# Altium footprint library Package_TO_SOT_THT.PcbLib: 236 footprints (part 1 of 15)
Each footprint in its own frame and in the unit in brackets; x right, y up, seen from the top. Pads: shape width x height; smd on the part's side, far side on the other; paste and mask are expansions set on the pad; w line width, h text height; cw(c..) or ccw(c..) is an arc to the next point about the centre after c.
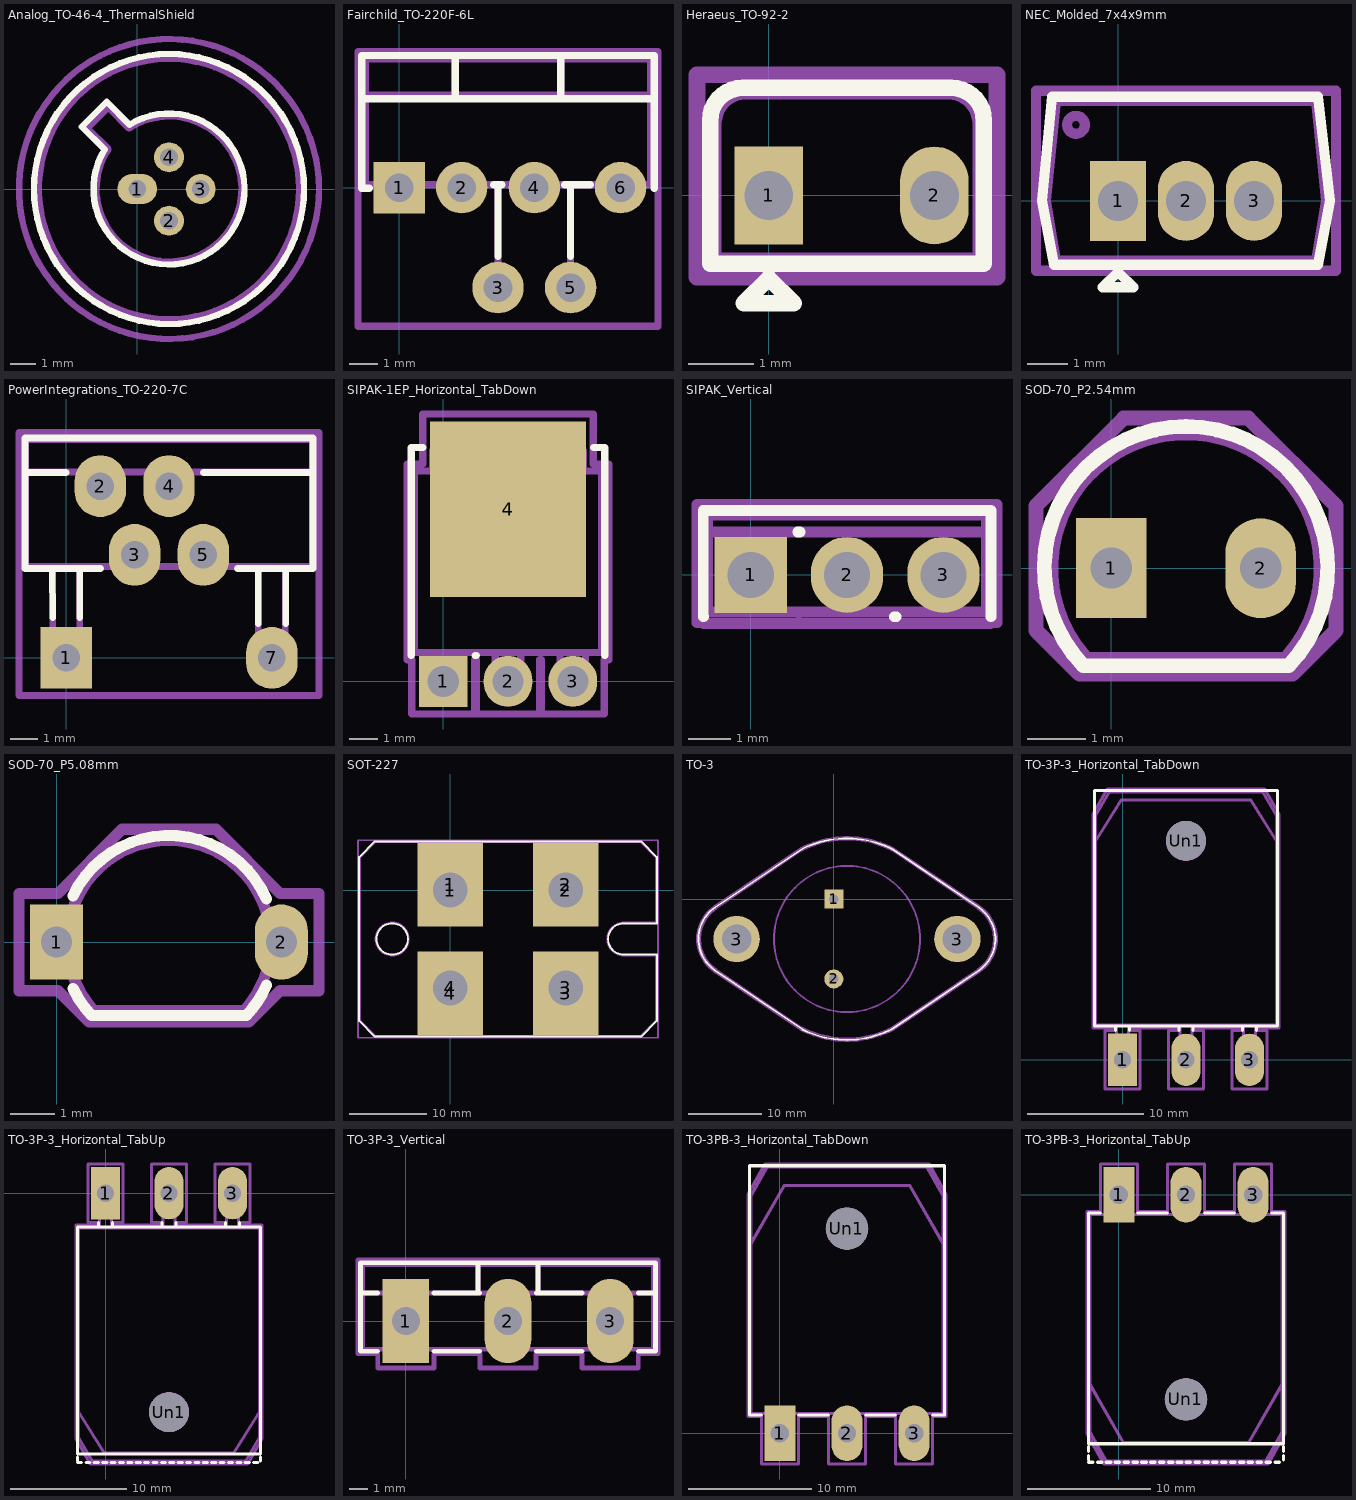
[diagram p0: the footprints below, top view; thin cyan lines are the x and y axes]

## Analog_TO-46-4_ThermalShield [mm]
pads (4):
  rrect100% 1.6x1.2 hole 0.7: 1(0,0)
  round 1.2 hole 0.7: 2(1.27,-1.27) 3(2.54,0) 4(1.27,1.27)
F.SilkS:
  circle w0.254: c1.27,0 r5.4
  lines w0.254: -2.214,2.494 -1.224,3.484 -0.312,2.572 cw(c1.27,0) -1.302,1.583 -2.214,2.494
F.Fab:
  circle w0.254: c1.27,0 r5.207
  lines w0.254: -1.15,1.598 ccw(c1.27,0) -0.329,2.419 -1.156,3.247 -1.977,2.426 -1.149,1.599
  text "'.Designator'" at -2.797,-0.84 h1
  text "REF**" at 0.099,5.827 h1
F.CrtYd:
  circle w0.254: c1.27,0 r6
3D body "Analog_TO-46-4_ThermalShield.step": height 6.18, standoff -4.3, extent -3.937,-5.204 6.477,5.204

## Fairchild_TO-220F-6L [mm]
pads (6):
  rect 1.8x1.8 hole 1: 1(0,0)
  rrect100% 1.8x1.8 hole 1: 2(2.19,0) 3(3.46,-3.5) 4(4.73,0) 5(6,-3.5) 6(7.75,0)
F.SilkS:
  lines w0.254: -1.31,3.111 8.93,3.111 ; -1.05,-0.021 -1.31,-0.021 -1.31,4.62 8.93,4.62 8.93,-0.021 ; 1.96,3.111 1.96,4.62 ; 3.3,0.1 3.6,0.1 ; 3.46,-2.4 3.46,0.1 ; 5.66,3.111 5.66,4.62 ; 5.8,0.1 6.7,0.1 ; 6,-2.4 6,0.1
F.Fab:
  lines w0.254: -1.19,3.23 8.81,3.23 ; 0,0 0,0.1 ; 1.96,3.23 1.96,4.5 ; 3.46,-3.5 3.46,0.1 ; 5.66,3.23 5.66,4.5 ; 6,-3.5 6,0.1 ; -1.19,0.1 8.81,0.1 8.81,4.5 -1.19,4.5 -1.19,0.1
  text "'.Designator'" at -0.237,4.78 h1
F.CrtYd:
  lines w0.254: -1.44,-4.85 9.06,-4.85 9.06,4.75 -1.44,4.75 -1.44,-4.85

## Heraeus_TO-92-2 [mm]
pads (2):
  rect 1.05x1.5 hole 0.75: 1(0,0)
  rrect100% 1.05x1.5 hole 0.75: 2(2.54,0)
F.SilkS:
  lines w0.254: -0.9,-1.05 -0.9,1.15 cw(c-0.4,1.15) -0.4,1.65 2.8,1.65 cw(c2.8,1.15) 3.3,1.15 3.3,-1.05 -0.9,-1.05 ; -0.381,-1.651 0.381,-1.651 0,-1.27 -0.381,-1.651
F.Fab:
  lines w0.254: 2.7,1.6 -0.35,1.6 ccw(c-0.35,1.1) -0.85,1.1 -0.85,-1 3.25,-1 3.25,1.1 ccw(c2.75,1.1) 2.75,1.6
  text "'.Designator'" at -2.777,-0.84 h1
F.CrtYd:
  lines w0.254: -1.1,-1.25 -1.1,1.85 3.5,1.85 3.5,-1.25 -1.1,-1.25
3D body "Heraeus_TO-92-2.step": height 4.7, standoff -4.5, extent -0.78,-1 3.32,1.6

## NEC_Molded_7x4x9mm [mm]
pads (3):
  rect 1.4x2 hole 1: 1(0,0)
  rrect100% 1.4x2 hole 1: 2(1.7,0) 3(3.4,0)
F.SilkS:
  lines w0.254: -1.9,0 -1.6,-1.6 5,-1.6 5.3,0 5,2.6 -1.65,2.6 -1.9,0 ; -0.381,-2.159 0.381,-2.159 0,-1.778 -0.381,-2.159
F.Fab:
  circle w0.254: c-1.05,1.9 r0.224
  lines w0.254: -1.8,0 -1.55,2.5 4.95,2.5 5.2,0 4.95,-1.5 -1.55,-1.5 -1.8,0
  text "'.Designator'" at -2.347,0.61 h1
F.CrtYd:
  lines w0.254: -2.05,-1.75 -2.05,2.75 5.45,2.75 5.45,-1.75 -2.05,-1.75
3D body "NEC_Molded_7x4x9mm.step": height 10, standoff -6, extent -1.8,-1.5 5.2,2.5

## PowerIntegrations_TO-220-7C [mil]
pads (6):
  rect 75x90 hole 40: 1(0,0)
  rrect100% 75x90 hole 40: 2(50,250) 3(100,150) 4(150,250) 5(200,150) 7(300,0)
F.SilkS:
  lines w10: -60,270 0,270 ; -20,130 -19.29,58.27 ; 20,130 20.08,58.27 ; 50,130 -60,130 -60,320 360,320 360,130 250,130 ; 200,270 360,270 ; 280,50 280,130 ; 320,50 320,130
F.Fab:
  lines w10: -58.66,270.87 358.66,270.87 ; -19.29,133.07 -19.29,-0.79 20.08,-0.79 20.08,133.07 ; 279.92,133.07 279.92,-0.79 319.29,-0.79 319.29,133.07 ; -58.66,133.07 358.66,133.07 358.66,318.11 -58.66,318.11 -58.66,133.07
  text "'.Designator'" at -9.32,166.92 h39.37
F.CrtYd:
  lines w10: -68.5,-54.72 368.5,-54.72 368.5,327.95 -68.5,327.95 -68.5,-54.72

## SIPAK-1EP_Horizontal_TabDown [mm]
pads (4):
  rect 1.714x1.8 hole 1.1: 1(0,0)
  rrect100% 1.714x1.8 hole 1.1: 2(2.286,0) 3(4.572,0)
  rect 5.5x6.2 smd: 4(2.286,6.073)
F.SilkS:
  lines w0.254: -1.124,0.91 -1.124,8.25 -0.724,8.25 ; 1.117,0.91 1.169,0.91 ; 5.296,8.25 5.696,8.25 5.696,0.91 5.689,0.91
F.Fab:
  lines w0.254: -1.014,1.02 -1.014,7.42 5.586,7.42 5.586,1.02 -1.014,1.02 ; -0.45,0 -0.45,1.02 0.45,1.02 0.45,0 -0.45,0 ; -0.379,7.42 -0.379,8.14 4.951,8.14 4.951,7.42 -0.379,7.42 ; 1.836,0 1.836,1.02 2.736,1.02 2.736,0 1.836,0 ; 4.122,0 4.122,1.02 5.022,1.02 5.022,0 4.122,0
  text "'.Designator'" at -1.767,3.3 h1
F.CrtYd:
  lines w0.254: -1.27,0.76 -1.27,7.67 -0.72,7.67 -0.72,9.43 5.29,9.43 5.29,7.67 5.84,7.67 5.84,0.76 5.68,0.76 5.68,-1.15 3.46,-1.15 3.46,0.76 3.4,0.76 3.4,-1.15 1.17,-1.15 1.17,0.76 1.11,0.76 1.11,-1.15 -1.11,-1.15 -1.11,0.76 -1.27,0.76

## SIPAK_Vertical [mm]
pads (3):
  rect 1.714x1.8 hole 1.1: 1(0,0)
  rrect100% 1.714x1.8 hole 1.1: 2(2.286,0) 3(4.572,0)
F.SilkS:
  lines w0.254: -1.117,-0.99 -1.124,-0.99 -1.124,1.53 5.696,1.53 5.696,-0.99 ; 1.117,1.02 1.169,1.02 ; 3.403,-0.99 3.455,-0.99 ; 5.689,1.02 5.696,1.02
F.Fab:
  lines w0.254: -1.014,1.02 5.586,1.02 ; -1.014,-0.88 5.586,-0.88 5.586,1.42 -1.014,1.42 -1.014,-0.88
  text "'.Designator'" at -1.757,-0.57 h1
F.CrtYd:
  lines w0.254: -1.27,-1.13 -1.11,-1.13 -1.11,-1.15 1.11,-1.15 1.11,-1.13 1.17,-1.13 1.17,-1.15 3.4,-1.15 3.4,-1.13 3.46,-1.13 3.46,-1.15 5.68,-1.15 5.68,-1.13 5.84,-1.13 5.84,1.67 -1.27,1.67 -1.27,-1.13

## SOD-70_P2.54mm [mm]
pads (2):
  rect 1.2x1.7 hole 0.7: 1(0,0)
  rrect100% 1.2x1.7 hole 0.7: 2(2.54,0)
F.SilkS:
  lines w0.254: -0.477,-1.66 cw(c1.27,0) 3.017,-1.66 -0.477,-1.66
F.Fab:
  lines w0.254: -0.429,-1.55 cw(c1.27,0) 2.969,-1.55 -0.429,-1.55
  text "'.Designator'" at -2.547,2.66 h1
F.CrtYd:
  lines w0.254: -1.28,-1.06 -1.28,1.06 0.21,2.55 2.33,2.55 3.82,1.06 3.82,-1.06 3.08,-1.8 -0.54,-1.8 -1.28,-1.06
3D body "SOD-70_P2.54mm.step": height 5.6, standoff -4.5, extent -1.03,-1.55 3.57,2.3

## SOD-70_P5.08mm [mm]
pads (2):
  rect 1.2x1.7 hole 0.7: 1(0,0)
  rrect100% 1.2x1.7 hole 0.7: 2(5.08,0)
F.SilkS:
  lines w0.254: 0.371,-1.05 ccw(c2.54,0) 0.793,-1.66 4.287,-1.66 ccw(c2.54,0) 4.744,-0.975 ; 0.371,1.05 cw(c2.54,0) 4.744,0.975
F.Fab:
  lines w0.254: 0.841,-1.55 cw(c2.54,0) 4.239,-1.55 0.841,-1.55
  text "'.Designator'" at -1.547,2.66 h1
F.CrtYd:
  lines w0.254: -0.85,-1.1 -0.85,1.1 0.03,1.1 1.48,2.55 3.6,2.55 5.05,1.1 5.93,1.1 5.93,-1.1 5.05,-1.1 4.35,-1.8 0.73,-1.8 0.03,-1.1 -0.85,-1.1
3D body "SOD-70_P5.08mm.step": height 7.6, standoff -2.46, extent -0.22,-1.55 5.34,2.3

## SOT-227 [mm]
pads (8):
  round 8 hole 4.5: 1(0,0) 2(15.05,0) 3(15.05,-12.75) 4(0,-12.75)
  rect 8.55x10.88 smd: 1(0,0.665) 2(15.05,0.665) 3(15.05,-13.415) 4(0,-13.415)
F.SilkS:
  circle w0.254: c-7.55,-6.375 r2.04
  lines w0.254: -11.86,-17.035 -9.8,-19.085 24.85,-19.085 26.91,-17.035 26.91,-8.415 22.6,-8.415 cw(c22.6,-6.375) 22.6,-4.335 26.91,-4.335 26.91,4.285 24.85,6.335 -9.8,6.335 -11.86,4.285 -11.86,-17.035
F.Fab:
  circle w0.254: c-7.55,-6.375 r2.15
  lines w0.254: -11.75,-16.975 -9.75,-18.975 24.8,-18.975 26.8,-16.975 26.8,-8.525 22.6,-8.525 cw(c22.6,-6.375) 22.6,-4.225 26.8,-4.225 26.8,4.225 24.8,6.225 -9.75,6.225 -11.75,4.225 -11.75,-16.975
  text "'.Designator'" at 3.478,-6.215 h1
F.CrtYd:
  lines w0.254: -12,-19.23 27.05,-19.23 27.05,6.48 -12,6.48 -12,-19.23

## TO-3 [mm]
pads (4):
  rect 2.6x2.6 hole 1.3: 1(0,0)
  round 2.6 hole 1.3: 2(0,-10.92)
  round 6.35 hole 4: 3(-13.3,-5.45) 3(16.9,-5.45)
F.SilkS:
  lines w0.254: -4.325,-17.825 ccw(c1.765,-5.561) 8.1,-17.7 19.9,-9.7 ccw(c16.9,-5.45) 19.9,-1.2 8.1,6.8 ccw(c1.801,-5.452) -4.3,6.9 -16.2,-1.1 ccw(c-13.311,-5.434) -16.3,-9.7 -4.3,-17.8
F.Fab:
  circle w0.254: c-13.3,-5.45 r2
  circle w0.254: c1.8,-5.45 r10
  circle w0.254: c16.9,-5.45 r2
  lines w0.254: -16.11,-9.58 cw(c-13.3,-5.45) -16.11,-1.32 -4.38,6.67 cw(c1.8,-5.45) 7.98,6.67 19.71,-1.32 cw(c16.9,-5.45) 19.71,-9.58 7.98,-17.56 cw(c1.79,-5.403) -4.38,-17.57 -16.11,-9.58
  text "'.Designator'" at -4.047,-5.09 h1
F.CrtYd:
  lines w0.254: -16.4,-9.9 cw(c-13.3,-5.45) -16.4,-1 -4.5,7 cw(c1.8,-5.45) 8.1,7 20,-1 cw(c16.9,-5.45) 20,-9.9 8.1,-17.9 cw(c1.8,-5.45) -4.5,-17.9 -16.4,-9.9
3D body "TO-3.step": height 9, standoff -10, extent -18.3,-19.05 21.9,8.15

## TO-3P-3_Horizontal_TabDown [mm]
pads (4):
  rect 2.5x4.5 hole 1.5: 1(0,0)
  rrect100% 2.5x4.5 hole 1.5: 2(5.45,0) 3(10.9,0)
  round 3.4 hole 3.4: Un1(5.45,18.8)
F.SilkS:
  lines w0.254: -0.61,2.51 -0.61,2.89 ; 0.61,2.51 0.61,2.89 ; 4.84,2.51 4.84,2.89 ; 6.06,2.51 6.06,2.89 ; 10.29,2.51 10.29,2.89 ; 11.51,2.51 11.51,2.89 ; -2.41,2.89 13.31,2.89 13.31,23.11 -2.41,23.11 -2.41,2.89
F.Fab:
  circle w0.254: c5.45,18.8 r1.6
  lines w0.254: -2.3,18.8 -2.3,3 13.2,3 13.2,18.8 ; -2.3,18.8 -0.11,22.3 11.01,22.3 13.2,18.8 ; -2.3,18.8 -2.3,21 -1.15,23 12.05,23 13.2,21 13.2,18.8 ; -0.5,0 0.5,0 0.5,3 -0.5,3 -0.5,0 ; 4.95,0 5.95,0 5.95,3 4.95,3 4.95,0 ; 10.4,0 11.4,0 11.4,3 10.4,3 10.4,0
  text "'.Designator'" at 1.403,9.54 h1
F.CrtYd:
  lines w0.254: -2.55,2.75 -0.75,2.75 -0.75,2.5 -1.5,2.5 -1.5,-2.5 1.5,-2.5 1.5,2.5 0.75,2.5 0.75,2.75 4.7,2.75 4.7,2.5 3.95,2.5 3.95,-2.5 6.95,-2.5 6.95,2.5 6.2,2.5 6.2,2.75 10.15,2.75 10.15,2.5 9.4,2.5 9.4,-2.5 12.4,-2.5 12.4,2.5 11.65,2.5 11.65,2.75 13.45,2.75 13.45,21.07 12.2,23.25 -1.3,23.25 -2.55,21.07 -2.55,2.75

## TO-3P-3_Horizontal_TabUp [mm]
pads (4):
  rect 2.5x4.5 hole 1.5: 1(0,0)
  rrect100% 2.5x4.5 hole 1.5: 2(5.45,0) 3(10.9,0)
  round 3.4 hole 3.4: Un1(5.45,-18.8)
F.SilkS:
  lines w0.254: -2.41,-23.11 -2.05,-23.11 ; -2.41,-23.01 -2.41,-22.65 ; -1.69,-23.11 -1.33,-23.11 ; -0.97,-23.11 -0.61,-23.11 ; -0.61,-2.89 -0.61,-2.51 ; -0.25,-23.11 0.11,-23.11 ; 0.47,-23.11 0.83,-23.11 ; 0.61,-2.89 0.61,-2.51 ; 1.19,-23.11 1.55,-23.11 ; 1.91,-23.11 2.27,-23.11 ; 2.63,-23.11 2.99,-23.11 ; 3.35,-23.11 3.71,-23.11 ; 4.07,-23.11 4.43,-23.11 ; 4.79,-23.11 5.15,-23.11 ; 4.84,-2.89 4.84,-2.51 ; 5.51,-23.11 5.87,-23.11 ; 6.06,-2.89 6.06,-2.51 ; 6.23,-23.11 6.59,-23.11 ; 6.95,-23.11 7.31,-23.11 ; 7.67,-23.11 8.03,-23.11 ; 8.39,-23.11 8.75,-23.11 ; 9.11,-23.11 9.47,-23.11 ; 9.83,-23.11 10.19,-23.11 ; 10.29,-2.89 10.29,-2.51 ; 10.55,-23.11 10.91,-23.11 ; 11.27,-23.11 11.63,-23.11 ; 11.51,-2.89 11.51,-2.51 ; 11.99,-23.11 12.35,-23.11 ; 12.71,-23.11 13.07,-23.11 ; 13.31,-23.01 13.31,-22.65 ; -2.41,-22.41 13.31,-22.41 13.31,-2.89 -2.41,-2.89 -2.41,-22.41
F.Fab:
  circle w0.254: c5.45,-18.8 r1.6
  lines w0.254: -2.3,-18.8 -0.11,-22.3 11.01,-22.3 13.2,-18.8 ; -2.3,-18.8 -2.3,-21 -1.15,-23 12.05,-23 13.2,-21 13.2,-18.8 ; -2.3,-18.8 -2.3,-3 13.2,-3 13.2,-18.8 ; -0.5,-3 0.5,-3 0.5,0 -0.5,0 -0.5,-3 ; 4.95,-3 5.95,-3 5.95,0 4.95,0 4.95,-3 ; 10.4,-3 11.4,-3 11.4,0 10.4,0 10.4,-3
  text "'.Designator'" at 1.403,-11.22 h1
F.CrtYd:
  lines w0.254: -2.55,-21.07 -1.3,-23.25 12.2,-23.25 13.45,-21.07 13.45,-2.75 11.65,-2.75 11.65,-2.5 12.4,-2.5 12.4,2.5 9.4,2.5 9.4,-2.5 10.15,-2.5 10.15,-2.75 6.2,-2.75 6.2,-2.5 6.95,-2.5 6.95,2.5 3.95,2.5 3.95,-2.5 4.7,-2.5 4.7,-2.75 0.75,-2.75 0.75,-2.5 1.5,-2.5 1.5,2.5 -1.5,2.5 -1.5,-2.5 -0.75,-2.5 -0.75,-2.75 -2.55,-2.75 -2.55,-21.07

## TO-3P-3_Vertical [mm]
pads (3):
  rect 2.5x4.5 hole 1.5: 1(0,0)
  rrect100% 2.5x4.5 hole 1.5: 2(5.45,0) 3(10.9,0)
F.SilkS:
  lines w0.254: -2.41,1.5 -1.51,1.5 ; -1.51,-1.61 -2.41,-1.61 -2.41,3.11 13.31,3.11 13.31,-1.61 12.41,-1.61 ; 1.51,-1.61 3.94,-1.61 ; 1.51,1.5 3.94,1.5 ; 3.85,1.5 3.85,3.11 ; 6.96,-1.61 9.39,-1.61 ; 6.96,1.5 9.39,1.5 ; 7.05,1.5 7.05,3.11 ; 12.41,1.5 13.31,1.5
F.Fab:
  lines w0.254: -2.3,1.5 13.2,1.5 ; 3.85,1.5 3.85,3 ; 7.05,1.5 7.05,3 ; -2.3,-1.5 -2.3,3 13.2,3 13.2,-1.5 -2.3,-1.5
  text "'.Designator'" at 1.403,-0.09 h1
F.CrtYd:
  lines w0.254: -2.55,-1.75 -2.55,3.25 13.45,3.25 13.45,-1.75 12.4,-1.75 12.4,-2.5 9.4,-2.5 9.4,-1.75 6.95,-1.75 6.95,-2.5 3.95,-2.5 3.95,-1.75 1.5,-1.75 1.5,-2.5 -1.5,-2.5 -1.5,-1.75 -2.55,-1.75
3D body "TO-3P-3_Vertical.step": height 22.7, standoff -18, extent -2.305,-1.4 13.205,3.11

## TO-3PB-3_Horizontal_TabDown [mm]
pads (4):
  rect 2.5x4.5 hole 1.5: 1(0,0)
  rrect100% 2.5x4.5 hole 1.5: 2(5.45,0) 3(10.9,0)
  round 3.4 hole 3.4: Un1(5.45,16.6)
F.SilkS:
  lines w0.254: -1.51,1.49 -2.46,1.49 -2.46,21.71 13.36,21.71 13.36,1.49 12.41,1.49 ; 1.51,1.49 3.94,1.49 ; 6.96,1.49 9.39,1.49
F.Fab:
  circle w0.254: c5.45,16.6 r1.6
  lines w0.254: -2.35,15.4 -2.35,1.6 13.25,1.6 13.25,15.4 ; -2.35,15.4 0.35,20.1 10.55,20.1 13.25,15.4 ; -2.35,15.4 -2.35,19.3 -1.05,21.6 11.95,21.6 13.25,19.3 13.25,15.4 ; -0.5,0 0.5,0 0.5,1.6 -0.5,1.6 -0.5,0 ; 4.95,0 5.95,0 5.95,1.6 4.95,1.6 4.95,0 ; 10.4,0 11.4,0 11.4,1.6 10.4,1.6 10.4,0
  text "'.Designator'" at 1.403,8.84 h1
F.CrtYd:
  lines w0.254: -2.6,1.35 -1.5,1.35 -1.5,-2.5 1.5,-2.5 1.5,1.35 3.95,1.35 3.95,-2.5 6.95,-2.5 6.95,1.35 9.4,1.35 9.4,-2.5 12.4,-2.5 12.4,1.35 13.5,1.35 13.5,19.37 12.1,21.85 -1.2,21.85 -2.6,19.37 -2.6,1.35

## TO-3PB-3_Horizontal_TabUp [mm]
pads (4):
  rect 2.5x4.5 hole 1.5: 1(0,0)
  rrect100% 2.5x4.5 hole 1.5: 2(5.45,0) 3(10.9,0)
  round 3.4 hole 3.4: Un1(5.45,-16.6)
F.SilkS:
  lines w0.254: -2.46,-21.71 -2.1,-21.71 ; -2.46,-21.53 -2.46,-21.17 ; -2.46,-20.81 -2.46,-20.45 ; -1.74,-21.71 -1.38,-21.71 ; -1.51,-1.49 -2.46,-1.49 -2.46,-20.21 13.36,-20.21 13.36,-1.49 12.41,-1.49 ; -1.02,-21.71 -0.66,-21.71 ; -0.3,-21.71 0.06,-21.71 ; 0.42,-21.71 0.78,-21.71 ; 1.14,-21.71 1.5,-21.71 ; 1.51,-1.49 3.94,-1.49 ; 1.86,-21.71 2.22,-21.71 ; 2.58,-21.71 2.94,-21.71 ; 3.3,-21.71 3.66,-21.71 ; 4.02,-21.71 4.38,-21.71 ; 4.74,-21.71 5.1,-21.71 ; 5.46,-21.71 5.82,-21.71 ; 6.18,-21.71 6.54,-21.71 ; 6.9,-21.71 7.26,-21.71 ; 6.96,-1.49 9.39,-1.49 ; 7.62,-21.71 7.98,-21.71 ; 8.34,-21.71 8.7,-21.71 ; 9.06,-21.71 9.42,-21.71 ; 9.78,-21.71 10.14,-21.71 ; 10.5,-21.71 10.86,-21.71 ; 11.22,-21.71 11.58,-21.71 ; 11.94,-21.71 12.3,-21.71 ; 12.66,-21.71 13.02,-21.71 ; 13.36,-21.53 13.36,-21.17 ; 13.36,-20.81 13.36,-20.45
F.Fab:
  circle w0.254: c5.45,-16.6 r1.6
  lines w0.254: -2.35,-15.4 0.35,-20.1 10.55,-20.1 13.25,-15.4 ; -2.35,-15.4 -2.35,-19.3 -1.05,-21.6 11.95,-21.6 13.25,-19.3 13.25,-15.4 ; -2.35,-15.4 -2.35,-1.6 13.25,-1.6 13.25,-15.4 ; -0.5,-1.6 0.5,-1.6 0.5,0 -0.5,0 -0.5,-1.6 ; 4.95,-1.6 5.95,-1.6 5.95,0 4.95,0 4.95,-1.6 ; 10.4,-1.6 11.4,-1.6 11.4,0 10.4,0 10.4,-1.6
  text "'.Designator'" at 1.403,-10.52 h1
F.CrtYd:
  lines w0.254: -2.6,-19.37 -1.2,-21.85 12.1,-21.85 13.5,-19.37 13.5,-1.35 12.4,-1.35 12.4,2.5 9.4,2.5 9.4,-1.35 6.95,-1.35 6.95,2.5 3.95,2.5 3.95,-1.35 1.5,-1.35 1.5,2.5 -1.5,2.5 -1.5,-1.35 -2.6,-1.35 -2.6,-19.37